# Altium schematic symbol library SJ-3523-SMT-TR.SchLib: 1 symbol
Pins are listed as number, name and electrical type; pins without a type are passive.

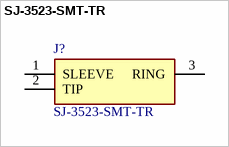
[diagram p0: symbol SJ-3523-SMT-TR]

## SJ-3523-SMT-TR
designator J?
Phone Connectors Audio Jacks; Manufacturer_Name: Same Sky; Geometry.Height: 5.2mm; Mouser Part Number: 490-SJ-3523-SMT-TR; Mouser Price/Stock: https://www.mouser.co.uk/ProductDetail/CUI-Devices/SJ-3523-SMT-TR?qs=WyjlAZoYn51zOHzJ3r4ZRA%3D%3D; Manufacturer_Part_Number: SJ-3523-SMT-TR; Datasheet Link: https://www.mouser.de/datasheet/2/670/sj_352x_smt-1779397.pdf
footprint SJ3523SMTTR
pins: 1 SLEEVE, 2 TIP, 3 RING